# EAGLE library part PNP-DUAL (library audioint)
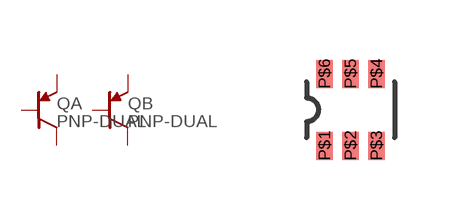
[diagram p28: symbol with the pads of SOT363; footprint SOT363]

Designator prefix Q; gates A=PNP B=PNP

## PNP-DUALPMP5201  [SOT363]
P$1  A:P$1
P$2  B:P$1
P$3  B:P$3
P$4  B:P$2
P$5  A:P$2
P$6  A:P$3

## Footprint SOT363 (pad centres in mm)
smd 0.42 x 0.7: P$1 -0.65,-0.9; P$2 0,-0.9; P$3 0.65,-0.9; P$4 0.65,0.9; P$5 0,0.9; P$6 -0.65,0.9